# Altium integrated library WS-TASV J-Bend SMD Tact Switch 6X6 mm.IntLib: 9 symbols
Pins are listed as number, name and electrical type; pins without a type are passive.

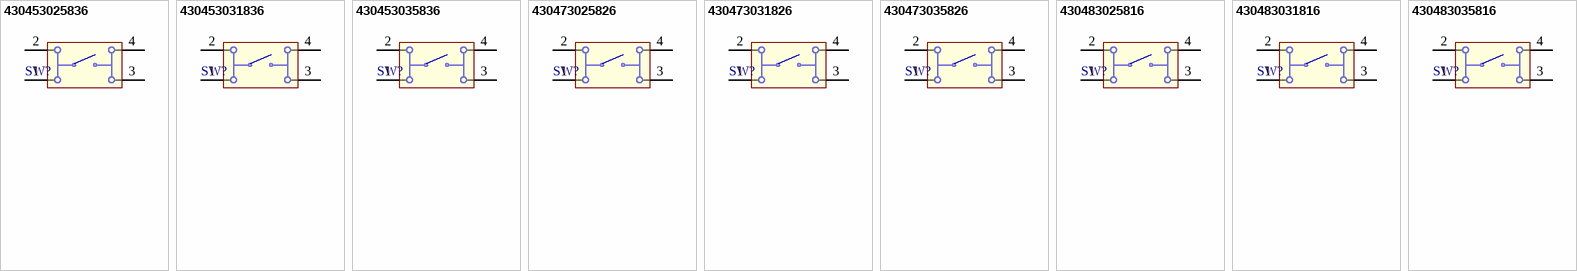
[diagram p0: symbols 430453025836 to 430483035816]

## 430453025836
designator SW?
WS-TASV J-Bend SMD Tact Switch 6X6 mm; PartNumber: 430453025836; NoPins: 04; PackageReference: 430453025836; ComponentLink1Description: Manufacturer URL; ComponentLink1URL: http://www.we-online.com; ComponentLink2Description: Datasheet; ComponentLink2URL: http://katalog.we-online.de/em/datasheet/4304x3.pdf
footprint 430453025836 (6*6mm washable vertical type, J-Bend SMD, height 2.5mm, salmon actuator, 360gf, T&R)
pins: 1, 2, 3, 4

## 430453031836
designator SW?
WS-TASV J-Bend SMD Tact Switch 6X6 mm; PartNumber: 430453031836; NoPins: 04; PackageReference: 430453031836; ComponentLink1Description: Manufacturer URL; ComponentLink1URL: http://www.we-online.com; ComponentLink2Description: Datasheet; ComponentLink2URL: http://katalog.we-online.de/em/datasheet/4304x3.pdf
footprint 430453031836 (6*6mm vertical type, J-Bend SMD, height 3.1mm, salmon actuator, 360gf, T&R)
pins: 1, 2, 3, 4

## 430453035836
designator SW?
WS-TASV J-Bend SMD Tact Switch 6X6 mm; PartNumber: 430453035836; NoPins: 04; PackageReference: 430453035836; ComponentLink1Description: Manufacturer URL; ComponentLink1URL: http://www.we-online.com; ComponentLink2Description: Datasheet; ComponentLink2URL: http://katalog.we-online.de/em/datasheet/4304x3.pdf
footprint 430453035836 (6*6mm vertical type, J-Bend SMD,  height 3.5mm, salmon actuator, 360gf, T&R)
pins: 1, 2, 3, 4

## 430473025826
designator SW?
WS-TASV J-Bend SMD Tact Switch 6X6 mm; PartNumber: 430473025826; NoPins: 04; PackageReference: 430473025826; ComponentLink1Description: Manufacturer URL; ComponentLink1URL: http://www.we-online.com; ComponentLink2Description: Datasheet; ComponentLink2URL: http://katalog.we-online.de/em/datasheet/4304x3.pdf
footprint 430473025826 (6*6mm vertical type, J-Bend SMD, height 2.5mm, white actuator, 260gf, T&R)
pins: 1, 2, 3, 4

## 430473031826
designator SW?
WS-TASV J-Bend SMD Tact Switch 6X6 mm; PartNumber: 430473031826; NoPins: 04; PackageReference: 430473031826; ComponentLink1Description: Manufacturer URL; ComponentLink1URL: http://www.we-online.com; ComponentLink2Description: Datasheet; ComponentLink2URL: http://katalog.we-online.de/em/datasheet/4304x3.pdf
footprint 430473031826 (6*6mm vertical type, J-Bend SMD, height 3.1mm, white actuator, 260gf, T&R)
pins: 1, 2, 3, 4

## 430473035826
designator SW?
WS-TASV J-Bend SMD Tact Switch 6X6 mm; PartNumber: 430473035826; NoPins: 04; PackageReference: 430473035826; ComponentLink1Description: Manufacturer URL; ComponentLink1URL: http://www.we-online.com; ComponentLink2Description: Datasheet; ComponentLink2URL: http://katalog.we-online.de/em/datasheet/4304x3.pdf
footprint 430473035826 (6*6mm vertical type, J-Bend SMD,  height 3.5mm, white actuator, 260gf, T&R)
pins: 1, 2, 3, 4

## 430483025816
designator SW?
WS-TASV J-Bend SMD Tact Switch 6X6 mm; PartNumber: 430483025816; NoPins: 04; PackageReference: 430483025816; ComponentLink1Description: Manufacturer URL; ComponentLink1URL: http://www.we-online.com; ComponentLink2Description: Datasheet; ComponentLink2URL: http://katalog.we-online.de/em/datasheet/4304x3.pdf
footprint 430483025816 (6*6mm vertical type, J-Bend SMD, height 2.5mm, black actuator, 160gf, T&R)
pins: 1, 2, 3, 4

## 430483031816
designator SW?
WS-TASV J-Bend SMD Tact Switch 6X6 mm; PartNumber: 430483031816; NoPins: 04; PackageReference: 430483031816; ComponentLink1Description: Manufacturer URL; ComponentLink1URL: http://www.we-online.com; ComponentLink2Description: Datasheet; ComponentLink2URL: http://katalog.we-online.de/em/datasheet/4304x3.pdf
footprint 430483031816 (6*6mm vertical type, J-Bend SMD, height 3.1mm, black actuator, 160gf, T&R)
pins: 1, 2, 3, 4

## 430483035816
designator SW?
WS-TASV J-Bend SMD Tact Switch 6X6 mm; PartNumber: 430483035816; NoPins: 04; PackageReference: 430483035816; ComponentLink1Description: Manufacturer URL; ComponentLink1URL: http://www.we-online.com; ComponentLink2Description: Datasheet; ComponentLink2URL: http://katalog.we-online.de/em/datasheet/4304x3.pdf
footprint 430483035816 (6*6mm vertical type, J-Bend SMD, height 3.5mm, black actuator, 160gf, T&R)
pins: 1, 2, 3, 4